# EAGLE library part JYMCU_LOGIC_LEVEL_CONVERTER (library provant_custom)
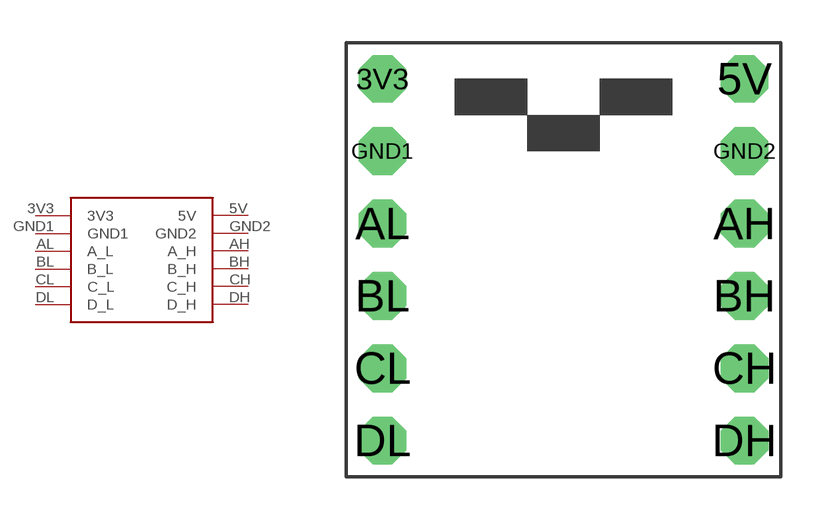
[diagram p0: symbol with the pads of JYMCU_LOGIC_LEVEL_SHIFTER_DIP; footprint JYMCU_LOGIC_LEVEL_SHIFTER_DIP]

Designator prefix -

## JYMCU_LOGIC_LEVEL_CONVERTER  [JYMCU_LOGIC_LEVEL_SHIFTER_DIP]
3V3  3V3
5V  5V
AH  A_H
AL  A_L
BH  B_H
BL  B_L
CH  C_H
CL  C_L
DH  D_H
DL  D_L
GND1  GND1
GND2  GND2

## Footprint JYMCU_LOGIC_LEVEL_SHIFTER_DIP (pad centres in mm)
drill 0.9 pad 1.676 octagon: 3V3 -6.35,6.35; 5V 6.35,6.35; AH 6.35,1.27; AL -6.35,1.27; BH 6.35,-1.27; BL -6.35,-1.27; CH 6.35,-3.81; CL -6.35,-3.81; DH 6.35,-6.35; DL -6.35,-6.35; GND1 -6.35,3.81; GND2 6.35,3.81